# EAGLE library part G4-MP3-V1 (library greg)
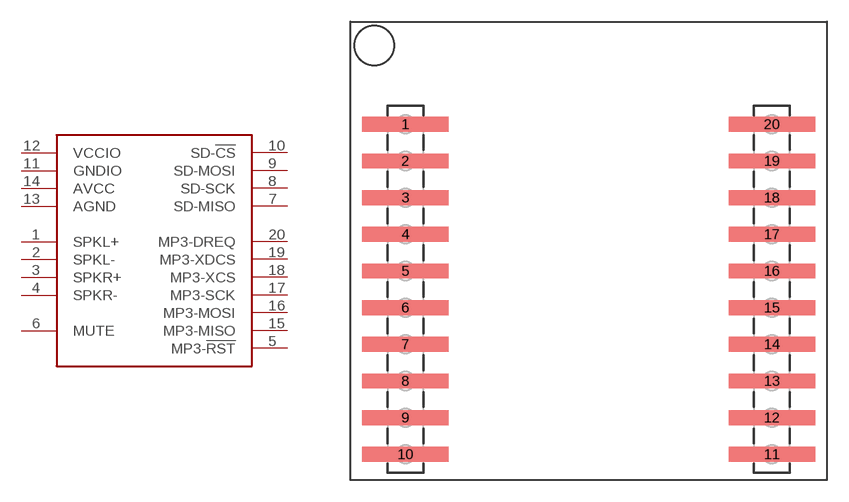
[diagram p24: symbol with the pads of G4-MP3-V1-SOCKET; footprint G4-MP3-V1-SOCKET]

Designator prefix -

## G4-MP3-V1  [G4-MP3-V1-SOCKET]
1  SPKL+
2  SPKL-
3  SPKR+
4  SPKR-
5  MP3-!RST!
6  MUTE
7  SD-MISO
8  SD-SCK
9  SD-MOSI
10  SD-!CS!
11  GNDIO
12  VCCIO
13  AGND
14  AVCC
15  MP3-MISO
16  MP3-MOSI
17  MP3-SCK
18  MP3-XCS
19  MP3-XDCS
20  MP3-DREQ

## Footprint G4-MP3-V1-SOCKET (pad centres in mm)
smd 6 x 1.02: 1 -12.7,8.763; 2 -12.7,6.223; 3 -12.7,3.683; 4 -12.7,1.143; 5 -12.7,-1.397; 6 -12.7,-3.937; 7 -12.7,-6.477; 8 -12.7,-9.017; 9 -12.7,-11.557; 10 -12.7,-14.097; 11 12.7,-14.097; 12 12.7,-11.557; 13 12.7,-9.017; 14 12.7,-6.477; 15 12.7,-3.937; 16 12.7,-1.397; 17 12.7,1.143; 18 12.7,3.683; 19 12.7,6.223; 20 12.7,8.763